# EAGLE library part MEC8-110-02-X-D-X-MATE (library samtec)
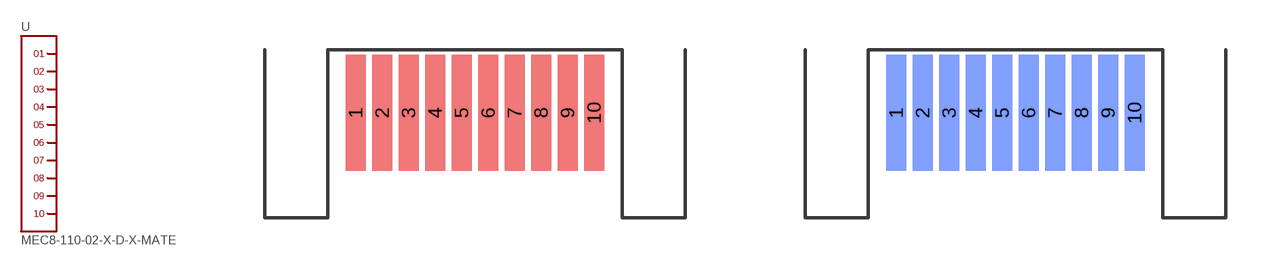
[diagram p18: symbol with the pads of MEC8-110-02-X-D-X-MATE.TOP; footprints MEC8-110-02-X-D-X-MATE.TOP, MEC8-110-02-X-D-X-MATE.BOTTOM]

Designator prefix -

## MEC8-110-02-X-D-X-MATE.TOP  [MEC8-110-02-X-D-X-MATE.TOP]
1  1
2  2
3  3
4  4
5  5
6  6
7  7
8  8
9  9
10  10

## MEC8-110-02-X-D-X-MATE.BOTTOM  [MEC8-110-02-X-D-X-MATE.BOTTOM]
Pads as for MEC8-110-02-X-D-X-MATE.TOP

## MEC8-110-02-X-D-X-MATE.BOTH  [MEC8-110-02-X-D-X-MATE.BOTH]
1  1
1@1  1
2  2
2@1  2
3  3
3@1  3
4  4
4@1  4
5  5
5@1  5
6  6
6@1  6
7  7
7@1  7
8  8
8@1  8
9  9
9@1  9
10  10
10@1  10

## Footprint MEC8-110-02-X-D-X-MATE.TOP (pad centres in mm)
smd 0.6 x 3.5: 1 -3.6,0; 2 -2.8,0; 3 -2,0; 4 -1.2,0; 5 -0.4,0; 6 0.4,0; 7 1.2,0; 8 2,0; 9 2.8,0; 10 3.6,0

## Footprint MEC8-110-02-X-D-X-MATE.BOTTOM (pad centres in mm)
smd 0.6 x 3.5 bottom: 1 -3.6,0; 2 -2.8,0; 3 -2,0; 4 -1.2,0; 5 -0.4,0; 6 0.4,0; 7 1.2,0; 8 2,0; 9 2.8,0; 10 3.6,0

## Footprint MEC8-110-02-X-D-X-MATE.BOTH (pad centres in mm)
smd 0.6 x 3.5: 1 -3.6,0; 2 -2.8,0; 3 -2,0; 4 -1.2,0; 5 -0.4,0; 6 0.4,0; 7 1.2,0; 8 2,0; 9 2.8,0; 10 3.6,0
smd 0.6 x 3.5 bottom: 1@1 -3.6,0; 2@1 -2.8,0; 3@1 -2,0; 4@1 -1.2,0; 5@1 -0.4,0; 6@1 0.4,0; 7@1 1.2,0; 8@1 2,0; 9@1 2.8,0; 10@1 3.6,0